# EAGLE library part ISOLATION_DIODE (library BaseApp)
Digikey No :- __FDFMA2P857CT-ND__ (6-WDFN). Digikey No :- __TT8U1CT-ND__ (8TSST).Note- The NC pin connects to the A pin
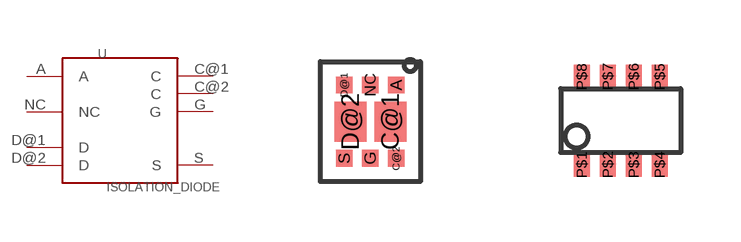
[diagram p102: symbol with the pads of 6-WDFN-EXPOSED-PAD; footprints 6-WDFN-EXPOSED-PAD, 8-TSST]

Designator prefix -

## ISOLATION_DIODE  [6-WDFN-EXPOSED-PAD]
A  A
C@1  C
C@2  C
D@1  D
D@2  D
G  G
NC  NC
S  S

## ISOLATION_DIODE-TT8U1CT  [8-TSST]
P$1  A
P$2  NC
P$3  S
P$4  G
P$5  D
P$6  D
P$7  C
P$8  C

## Footprint 6-WDFN-EXPOSED-PAD (pad centres in mm)
smd 0.42 x 0.42: A 0.65,0.915; C@2 0.65,-0.915; D@1 -0.65,0.915; G 0,-0.915; NC 0,0.915; S -0.65,-0.915
smd 0.8 x 1: C@1 0.5,0; D@2 -0.5,0

## Footprint 8-TSST (pad centres in mm)
smd 0.4 x 0.6: P$1 -0.975,-1.1; P$2 -0.325,-1.1; P$3 0.325,-1.1; P$4 0.975,-1.1; P$5 0.975,1.1; P$6 0.325,1.1; P$7 -0.325,1.1; P$8 -0.975,1.1